# Altium footprint library FPC-SMD_AFC30-S24FCA-00_2021-08-20.PcbLib: 1 footprints
Each footprint in its own frame and in the unit in brackets; x right, y up, seen from the top. Pads: shape width x height; smd on the part's side, far side on the other; paste and mask are expansions set on the pad; w line width, h text height; cw(c..) or ccw(c..) is an arc to the next point about the centre after c.
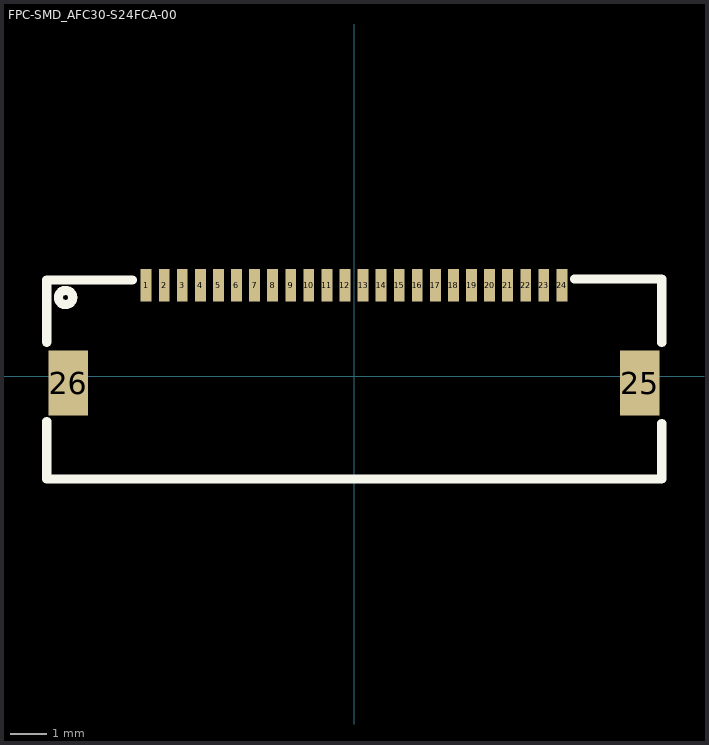
[diagram p0: the footprint, top view; thin cyan lines are the x and y axes]

## FPC-SMD_AFC30-S24FCA-00 [mm]
pads (26):
  rect 0.3x0.9 smd: 1(-5.755,2.514) 2(-5.255,2.514) 3(-4.755,2.514) 4(-4.255,2.514) 5(-3.755,2.514) 6(-3.255,2.514) 7(-2.755,2.514) 8(-2.255,2.514) 9(-1.755,2.514) 10(-1.255,2.514) 11(-0.755,2.514) 12(-0.255,2.514) 13(0.245,2.514) 14(0.746,2.514) 15(1.246,2.514) 16(1.746,2.514) 17(2.245,2.514) 18(2.745,2.514) 19(3.245,2.514) 20(3.745,2.514) 21(4.245,2.514) 22(4.745,2.514) 23(5.245,2.514) 24(5.745,2.514)
  rect 1.1x1.8 smd: 25(7.896,-0.186) 26(-7.905,-0.187)
Top Overlay:
  circle w0.254: c-7.983,2.179 r0.197
  lines w0.254: -8.504,-1.25 -8.504,-2.837 8.495,-2.837 ; -8.504,0.939 -8.504,2.663 -6.136,2.663 ; 6.091,2.687 8.504,2.687 8.504,0.937 ; 8.504,-2.837 8.504,-1.31